# Altium schematic symbol library LM2776DBVR.SchLib: 1 symbol
Pins are listed as number, name and electrical type; pins without a type are passive.

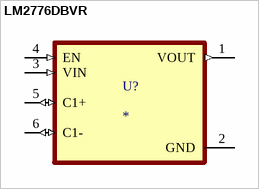
[diagram p0: symbol LM2776DBVR]

## LM2776DBVR
designator U?
Switched Capacitor Inverter; MF: Texas Instruments; MP: LM2776DBVR; SnapEDA_Link: https://www.snapeda.com/parts/LM2776DBVR/Texas+Instruments/view-part/?ref=snap; Package: SOT-23-6 Texas Instruments; Value: *; Check_prices: https://www.snapeda.com/parts/LM2776DBVR/Texas+Instruments/view-part/?ref=eda
footprint SOT95P280X145-6N
pins: 1 VOUT (out), 2 GND (power), 3 VIN (in), 4 EN (in), 5 C1+ (io), 6 C1- (io)